# EAGLE library part C8051F530 (library Zoli2_2015-01-28)
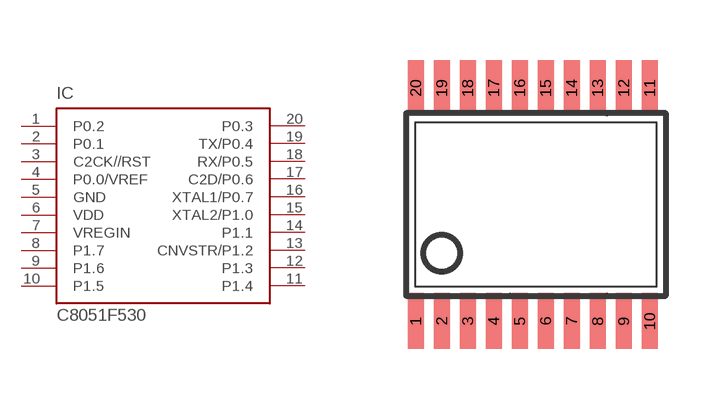
[diagram p42: symbol with the pads of TSSOP20; footprint TSSOP20]

Designator prefix IC

## C8051F530  [TSSOP20]
1  P0.2
2  P0.1
3  C2CK//RST
4  P0.0/VREF
5  GND  sup
6  VDD  sup
7  VREGIN  sup
8  P1.7
9  P1.6
10  P1.5
11  P1.4
12  P1.3
13  CNVSTR/P1.2
14  P1.1
15  XTAL2/P1.0
16  XTAL1/P0.7
17  C2D/P0.6
18  RX/P0.5
19  TX/P0.4
20  P0.3

## Footprint TSSOP20 (pad centres in mm)
smd 0.4 x 1.4: 1 -3.545,-2.918; 2 -2.895,-2.918; 3 -2.245,-2.918; 4 -1.595,-2.918; 5 -0.945,-2.918; 6 -0.295,-2.918; 7 0.355,-2.918; 8 1.008,-2.918; 9 1.658,-2.918; 10 2.308,-2.918; 11 2.308,2.918; 12 1.658,2.918; 13 1.005,2.918; 14 0.355,2.918; 15 -0.295,2.918; 16 -0.945,2.918; 17 -1.595,2.918; 18 -2.245,2.918; 19 -2.895,2.918; 20 -3.545,2.918